# Altium footprint library Crystal.PcbLib: 180 footprints (part 3 of 12)
Each footprint in its own frame and in the unit in brackets; x right, y up, seen from the top. Pads: shape width x height; smd on the part's side, far side on the other; paste and mask are expansions set on the pad; w line width, h text height; cw(c..) or ccw(c..) is an arc to the next point about the centre after c.
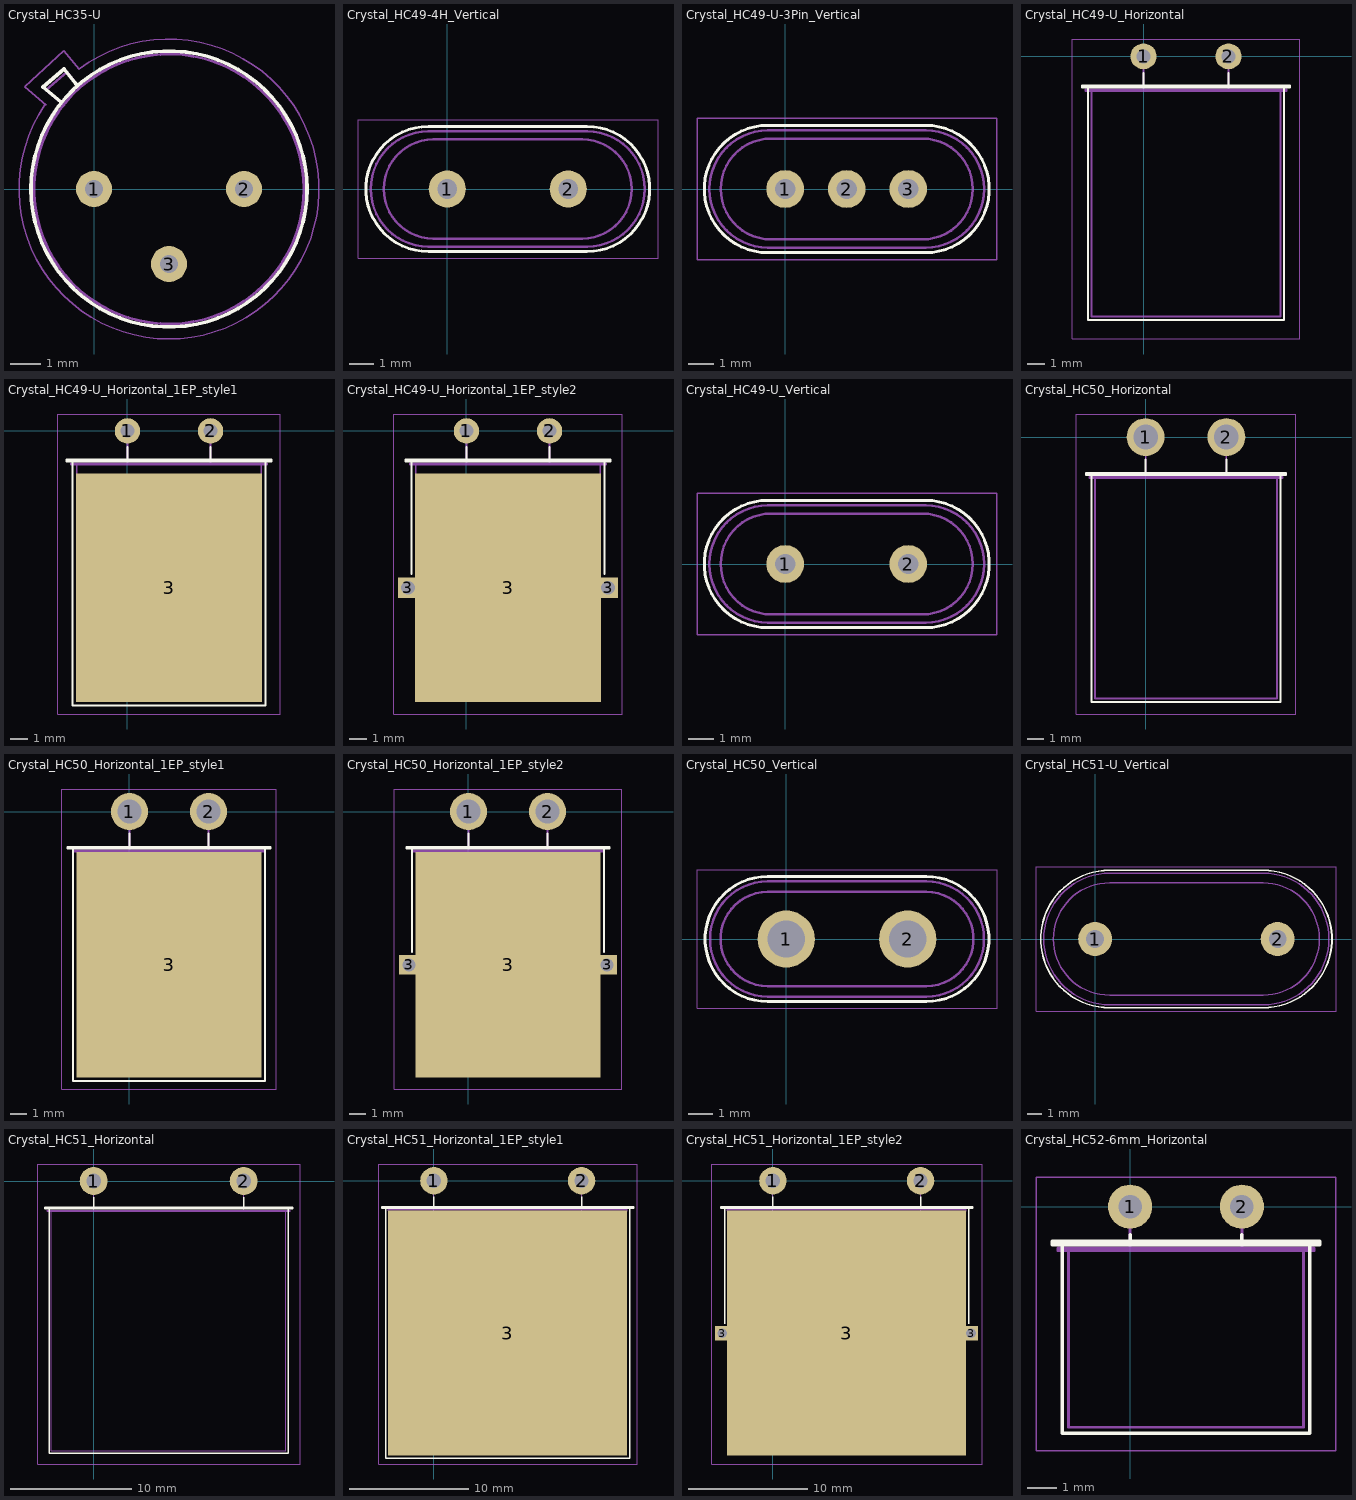
[diagram p2: the footprints below, top view; thin cyan lines are the x and y axes]

## Crystal_HC35-U [mm]
pads (3):
  round 1.2 hole 0.6: 1(0,0) 2(5,0) 3(2.5,-2.5)
F.SilkS:
  circle w0.12: c2.5,0 r4.6
  lines w0.12: -1.1,2.9 -1.7,3.4 -1,4 -0.6,3.5
F.CrtYd:
  lines w0.05: -1.639,2.805 ccw(c2.5,0) -0.5,4 -1,4.6 -2.3,3.4 -1.6,2.8
F.Fab:
  circle w0.1: c2.5,0 r4.5
  lines w0.1: -1,2.8 -1.6,3.3 -0.9,3.9 -0.5,3.4
  text "'.Designator'" at -1.547,-2.09 h1

## Crystal_HC49-4H_Vertical [mm]
pads (2):
  round 1.5 hole 0.8: 1(0,0) 2(4.88,0)
F.SilkS:
  lines w0.12: -0.76,-2.525 cw(c-0.76,0) -0.76,2.525 5.64,2.525 cw(c5.64,0) 5.64,-2.525 -0.76,-2.525
F.CrtYd:
  lines w0.05: -3.6,-2.8 8.5,-2.8 8.5,2.8 -3.6,2.8 -3.6,-2.8
F.Fab:
  lines w0.1: -0.76,-2.325 cw(c-0.76,0) -0.76,2.325 5.64,2.325 cw(c5.64,0) 5.64,-2.325 -0.76,-2.325 ; -0.56,-2 cw(c-0.56,0) -0.56,2 5.44,2 cw(c5.44,0) 5.44,-2 -0.56,-2
  text "'.Designator'" at -1.607,-0.84 h1
3D body "Crystal_HC49-4H_Vertical.step": height 4.1, standoff -2.9, extent -3.085,-2.325 7.965,2.325

## Crystal_HC49-U-3Pin_Vertical [mm]
pads (3):
  round 1.5 hole 0.8: 1(0,0) 2(2.44,0) 3(4.88,0)
F.SilkS:
  lines w0.12: -0.685,-2.525 cw(c-0.685,0) -0.685,2.525 5.565,2.525 cw(c5.565,0) 5.565,-2.525 -0.685,-2.525
F.CrtYd:
  lines w0.05: -3.5,-2.8 -3.5,2.8 8.4,2.8 8.4,-2.8 -3.5,-2.8
F.Fab:
  lines w0.1: -0.685,-2.325 cw(c-0.685,0) -0.685,2.325 5.565,2.325 cw(c5.565,0) 5.565,-2.325 -0.685,-2.325 ; -0.56,-2 cw(c-0.56,0) -0.56,2 5.44,2 cw(c5.44,0) 5.44,-2 -0.56,-2
  text "'.Designator'" at -1.607,-0.84 h1
3D body "Crystal_HC49-U-3Pin_Vertical.step": height 13.1, standoff -2.9, extent -3.01,-2.325 7.89,2.325

## Crystal_HC49-U_Horizontal [mm]
pads (2):
  round 1.5 hole 0.8: 1(0,0) 2(4.9,0)
F.SilkS:
  lines w0.12: 0,-1.8 0,-0.95 ; 4.9,-1.8 4.9,-0.95 ; -3.55,-1.8 -3.55,-1.68 8.45,-1.68 8.45,-1.8 -3.55,-1.8 ; -3.2,-15.2 -3.2,-1.8 8.1,-1.8 8.1,-15.2 -3.2,-15.2
F.CrtYd:
  lines w0.05: -4.1,-16.3 -4.1,1 9,1 9,-16.3 -4.1,-16.3
F.Fab:
  lines w0.1: 0,-2 0,-1 0,0 ; 4.9,-2 4.9,-1 4.9,0 ; -3.35,-2 -3.35,-1.9 8.25,-1.9 8.25,-2 -3.35,-2 ; -3,-15 7.9,-15 7.9,-2 -3,-2 -3,-15
  text "'.Designator'" at -1.547,-7.34 h1
3D body "Crystal_HC49-U_Horizontal.step": height 4.75, standoff -3, extent -3,-15 7.9,0.248

## Crystal_HC49-U_Horizontal_1EP_style1 [mm]
pads (3):
  round 1.5 hole 0.8: 1(0,0) 2(4.9,0)
  rect 11x13.5 smd: 3(2.45,-9.25)
F.SilkS:
  lines w0.12: 0,-1.8 0,-0.95 ; 4.9,-1.8 4.9,-0.95 ; -3.6,-1.8 -3.6,-1.68 8.5,-1.68 8.5,-1.8 -3.6,-1.8 ; -3.25,-16.2 8.15,-16.2 8.15,-1.8 -3.25,-1.8 -3.25,-16.2
F.CrtYd:
  lines w0.05: -4.1,-16.7 -4.1,1 9,1 9,-16.7 -4.1,-16.7
F.Fab:
  lines w0.1: 0,-2 0,-1 0,0 ; 4.9,-2 4.9,-1 4.9,0 ; -3.35,-2 8.25,-2 8.25,-1.9 -3.35,-1.9 -3.35,-2 ; -3,-15 -3,-2 7.9,-2 7.9,-15 -3,-15
  text "'.Designator'" at -1.597,-8.465 h1
3D body "Crystal_HC50_Horizontal_1EP_style1.step": height 4.75, standoff -3, extent -3.075,-15.86 7.975,0.596

## Crystal_HC49-U_Horizontal_1EP_style2 [mm]
pads (5):
  round 1.5 hole 0.8: 1(0,0) 2(4.9,0)
  rect 1.2x1.2 hole 0.8: 3(-3.45,-9.25) 3(8.35,-9.25)
  rect 11x13.5 smd: 3(2.45,-9.25)
F.SilkS:
  lines w0.12: -3.25,-8.45 -3.25,-1.8 8.15,-1.8 8.15,-8.45 ; 0,-1.8 0,-0.95 ; 4.9,-1.8 4.9,-0.95 ; -3.6,-1.8 8.5,-1.8 8.5,-1.68 -3.6,-1.68 -3.6,-1.8
F.CrtYd:
  lines w0.05: -4.3,-16.7 -4.3,1 9.2,1 9.2,-16.7 -4.3,-16.7
F.Fab:
  lines w0.1: -3.45,-9.25 8.35,-9.25 ; 0,-2 0,-1 0,0 ; 4.9,-2 4.9,-1 4.9,0 ; -3.35,-2 8.25,-2 8.25,-1.9 -3.35,-1.9 -3.35,-2 ; -3,-15 7.9,-15 7.9,-2 -3,-2 -3,-15
  text "'.Designator'" at -1.597,-8.465 h1
3D body "Crystal_HC49-U_Horizontal_1EP_style2.step": height 4.75, standoff -3, extent -3,-15 7.9,0.248

## Crystal_HC49-U_Vertical [mm]
pads (2):
  round 1.5 hole 0.8: 1(0,0) 2(4.88,0)
F.SilkS:
  lines w0.12: -0.685,-2.525 cw(c-0.685,0) -0.685,2.525 5.565,2.525 cw(c5.565,0) 5.565,-2.525 -0.685,-2.525
F.CrtYd:
  lines w0.05: -3.5,-2.8 -3.5,2.8 8.4,2.8 8.4,-2.8 -3.5,-2.8
F.Fab:
  lines w0.1: -0.685,-2.325 cw(c-0.685,0) -0.685,2.325 5.565,2.325 cw(c5.565,0) 5.565,-2.325 -0.685,-2.325 ; -0.56,-2 cw(c-0.56,0) -0.56,2 5.44,2 cw(c5.44,0) 5.44,-2 -0.56,-2
  text "'.Designator'" at -1.607,-0.84 h1
3D body "Crystal_HC49-U_Vertical.step": height 13.1, standoff -2.9, extent -3.01,-2.325 7.89,2.325

## Crystal_HC50_Horizontal [mm]
pads (2):
  round 2.3 hole 1.5: 1(0,0) 2(4.9,0)
F.SilkS:
  lines w0.12: 0,-2.3 0,-1.35 ; 4.9,-2.3 4.9,-1.35 ; -3.625,-2.3 8.525,-2.3 8.525,-2.18 -3.625,-2.18 -3.625,-2.3 ; -3.275,-16.06 -3.275,-2.3 8.175,-2.3 8.175,-16.06 -3.275,-16.06
F.CrtYd:
  lines w0.05: -4.2,-16.8 -4.2,1.4 9.1,1.4 9.1,-16.8 -4.2,-16.8
F.Fab:
  lines w0.1: 0,-2.5 0,-1.25 0,0 ; 4.9,-2.5 4.9,-1.25 4.9,0 ; -3.425,-2.5 -3.425,-2.4 8.325,-2.4 8.325,-2.5 -3.425,-2.5 ; -3.075,-15.86 -3.075,-2.5 7.975,-2.5 7.975,-15.86 -3.075,-15.86
  text "'.Designator'" at -1.547,-8.09 h1
3D body "Crystal_HC50_Horizontal.step": height 4.75, standoff -3, extent -3.075,-15.86 7.975,0.596

## Crystal_HC50_Horizontal_1EP_style1 [mm]
pads (3):
  round 2.3 hole 1.5: 1(0,0) 2(4.9,0)
  rect 11.5x14 smd: 3(2.45,-9.5)
F.SilkS:
  lines w0.12: 0,-2.3 0,-1.35 ; 4.9,-2.3 4.9,-1.35 ; -3.85,-2.3 -3.85,-2.18 8.75,-2.18 8.75,-2.3 -3.85,-2.3 ; -3.5,-16.7 -3.5,-2.3 8.4,-2.3 8.4,-16.7 -3.5,-16.7
F.CrtYd:
  lines w0.05: -4.2,-17.2 -4.2,1.4 9.1,1.4 9.1,-17.2 -4.2,-17.2
F.Fab:
  lines w0.1: 0,-2.5 0,-1.25 0,0 ; 4.9,-2.5 4.9,-1.25 4.9,0 ; -3.425,-2.5 -3.425,-2.4 8.325,-2.4 8.325,-2.5 -3.425,-2.5 ; -3.075,-15.86 7.975,-15.86 7.975,-2.5 -3.075,-2.5 -3.075,-15.86
  text "'.Designator'" at -1.597,-8.515 h1
3D body "Crystal_HC50_Horizontal_1EP_style1.step": height 4.75, standoff -3, extent -3.075,-15.86 7.975,0.596

## Crystal_HC50_Horizontal_1EP_style2 [mm]
pads (5):
  round 2.3 hole 1.5: 1(0,0) 2(4.9,0)
  rect 1.2x1.2 hole 0.8: 3(-3.7,-9.5) 3(8.6,-9.5)
  rect 11.5x14 smd: 3(2.45,-9.5)
F.SilkS:
  lines w0.12: -3.5,-8.7 -3.5,-2.3 8.4,-2.3 8.4,-8.7 ; 0,-2.3 0,-1.35 ; 4.9,-2.3 4.9,-1.35 ; -3.85,-2.3 -3.85,-2.18 8.75,-2.18 8.75,-2.3 -3.85,-2.3
F.CrtYd:
  lines w0.05: -4.6,-17.2 -4.6,1.4 9.5,1.4 9.5,-17.2 -4.6,-17.2
F.Fab:
  lines w0.1: -3.7,-9.5 8.6,-9.5 ; 0,-2.5 0,-1.25 0,0 ; 4.9,-2.5 4.9,-1.25 4.9,0 ; -3.425,-2.5 8.325,-2.5 8.325,-2.4 -3.425,-2.4 -3.425,-2.5 ; -3.075,-15.86 7.975,-15.86 7.975,-2.5 -3.075,-2.5 -3.075,-15.86
  text "'.Designator'" at -1.597,-8.515 h1
3D body "Crystal_HC50_Horizontal_1EP_style2.step": height 4.75, standoff -3, extent -3.075,-15.86 7.975,0.596

## Crystal_HC50_Vertical [mm]
pads (2):
  round 2.3 hole 1.5: 1(0,0) 2(4.9,0)
F.SilkS:
  lines w0.12: -0.75,-2.525 cw(c-0.75,0) -0.75,2.525 5.65,2.525 cw(c5.65,0) 5.65,-2.525 -0.75,-2.525
F.CrtYd:
  lines w0.05: -3.6,-2.8 -3.6,2.8 8.5,2.8 8.5,-2.8 -3.6,-2.8
F.Fab:
  lines w0.1: -0.75,-2.325 cw(c-0.75,0) -0.75,2.325 5.65,2.325 cw(c5.65,0) 5.65,-2.325 -0.75,-2.325 ; -0.75,-1.9 cw(c-0.75,0) -0.75,1.9 5.65,1.9 cw(c5.65,0) 5.65,-1.9 -0.75,-1.9
  text "'.Designator'" at -1.597,-0.84 h1
3D body "Crystal_HC50_Vertical.step": height 13.46, standoff -2.9, extent -3.075,-2.325 7.975,2.325

## Crystal_HC51-U_Vertical [mm]
pads (2):
  round 2.3 hole 1.2: 1(0,0) 2(12.35,0)
F.SilkS:
  lines w0.12: 0.975,-4.65 cw(c0.975,0) 0.975,4.65 11.375,4.65 cw(c11.375,0) 11.375,-4.65 0.975,-4.65
F.CrtYd:
  lines w0.05: -4,-4.9 -4,4.9 16.3,4.9 16.3,-4.9 -4,-4.9
F.Fab:
  lines w0.1: 0.975,-4.45 cw(c0.975,0) 0.975,4.45 11.375,4.45 cw(c11.375,0) 11.375,-4.45 0.975,-4.45 ; 0.975,-3.8 cw(c0.975,0) 0.975,3.8 11.375,3.8 cw(c11.375,0) 11.375,-3.8 0.975,-3.8
  text "'.Designator'" at 2.128,-0.84 h1
3D body "Crystal_HC51-U_Vertical.step": height 19.8, standoff -2.9, extent -3.475,-4.45 15.825,4.45

## Crystal_HC51_Horizontal [mm]
pads (2):
  round 2.3 hole 1.2: 1(0,0) 2(12.35,0)
F.SilkS:
  lines w0.12: 0,-2.3 0,-1.35 ; 12.35,-2.3 12.35,-1.35 ; -4.025,-2.3 16.375,-2.3 16.375,-2.18 -4.025,-2.18 -4.025,-2.3 ; -3.675,-22.4 16.025,-22.4 16.025,-2.3 -3.675,-2.3 -3.675,-22.4
F.CrtYd:
  lines w0.05: -4.6,-23.3 -4.6,1.4 17,1.4 17,-23.3 -4.6,-23.3
F.Fab:
  lines w0.1: 0,-2.5 0,-1.25 0,0 ; 12.35,-2.5 12.35,-1.25 12.35,0 ; -3.825,-2.5 16.175,-2.5 16.175,-2.4 -3.825,-2.4 -3.825,-2.5 ; -3.475,-22.2 15.825,-22.2 15.825,-2.5 -3.475,-2.5 -3.475,-22.2
  text "'.Designator'" at 2.203,-9.09 h1
3D body "Crystal_HC51_Horizontal.step": height 9, standoff -3, extent -3.463,-22.2 15.813,0.447

## Crystal_HC51_Horizontal_1EP_style1 [mm]
pads (3):
  round 2.3 hole 1.2: 1(0,0) 2(12.35,0)
  rect 20x20.5 smd: 3(6.175,-12.75)
F.SilkS:
  lines w0.12: 0,-2.3 0,-1.35 ; 12.35,-2.3 12.35,-1.35 ; -4.375,-2.3 -4.375,-2.18 16.725,-2.18 16.725,-2.3 -4.375,-2.3 ; -4.025,-23.2 -4.025,-2.3 16.375,-2.3 16.375,-23.2 -4.025,-23.2
F.CrtYd:
  lines w0.05: -4.6,-23.7 -4.6,1.4 17,1.4 17,-23.7 -4.6,-23.7
F.Fab:
  lines w0.1: 0,-2.5 0,-1.25 0,0 ; 12.35,-2.5 12.35,-1.25 12.35,0 ; -3.825,-2.5 -3.825,-2.4 16.175,-2.4 16.175,-2.5 -3.825,-2.5 ; -3.475,-22.2 15.825,-22.2 15.825,-2.5 -3.475,-2.5 -3.475,-22.2
  text "'.Designator'" at 2.128,-11.765 h1
3D body "Crystal_HC51_Horizontal_1EP_style1.step": height 9, standoff -3, extent -3.463,-22.2 15.813,0.447

## Crystal_HC51_Horizontal_1EP_style2 [mm]
pads (5):
  round 2.3 hole 1.2: 1(0,0) 2(12.35,0)
  rect 1.2x1.2 hole 0.8: 3(-4.225,-12.75) 3(16.575,-12.75)
  rect 20x20.5 smd: 3(6.175,-12.75)
F.SilkS:
  lines w0.12: -4.025,-11.95 -4.025,-2.3 16.375,-2.3 16.375,-11.95 ; 0,-2.3 0,-1.35 ; 12.35,-2.3 12.35,-1.35 ; -4.375,-2.3 16.725,-2.3 16.725,-2.18 -4.375,-2.18 -4.375,-2.3
F.CrtYd:
  lines w0.05: -5.1,-23.7 -5.1,1.4 17.5,1.4 17.5,-23.7 -5.1,-23.7
F.Fab:
  lines w0.1: -4.225,-12.75 16.575,-12.75 ; 0,-2.5 0,-1.25 0,0 ; 12.35,-2.5 12.35,-1.25 12.35,0 ; -3.825,-2.5 -3.825,-2.4 16.175,-2.4 16.175,-2.5 -3.825,-2.5 ; -3.475,-22.2 15.825,-22.2 15.825,-2.5 -3.475,-2.5 -3.475,-22.2
  text "'.Designator'" at 2.128,-11.765 h1
3D body "Crystal_HC51_Horizontal_1EP_style2.step": height 9, standoff -3, extent -3.463,-22.2 15.813,0.447

## Crystal_HC52-6mm_Horizontal [mm]
pads (2):
  round 1.5 hole 0.8: 1(0,0) 2(3.8,0)
F.SilkS:
  lines w0.12: 0,-1.3 0,-0.95 ; 3.8,-1.3 3.8,-0.95 ; -2.65,-1.3 6.45,-1.3 6.45,-1.18 -2.65,-1.18 -2.65,-1.3 ; -2.3,-7.7 6.1,-7.7 6.1,-1.3 -2.3,-1.3 -2.3,-7.7
F.CrtYd:
  lines w0.05: -3.2,-8.3 -3.2,1 7,1 7,-8.3 -3.2,-8.3
F.Fab:
  lines w0.1: 0,-1.5 0,-0.75 0,0 ; 3.8,-1.5 3.8,-0.75 3.8,0 ; -2.45,-1.5 -2.45,-1.4 6.25,-1.4 6.25,-1.5 -2.45,-1.5 ; -2.1,-7.5 5.9,-7.5 5.9,-1.5 -2.1,-1.5 -2.1,-7.5
  text "'.Designator'" at -2.297,-4.84 h1
3D body "Crystal_HC52-6mm_Horizontal.step": height 3.4, standoff -3, extent -2.088,-7.5 5.888,0.248